# EAGLE library part COCOON_48BIT_HEADER (library Papilio_Pro_breakout-board)
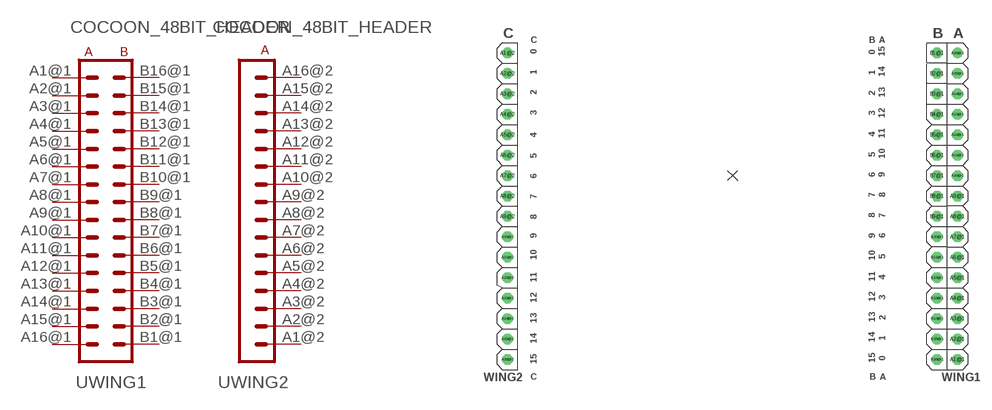
[diagram p0: symbol with the pads of COCOON_48BIT_HEADER; footprint COCOON_48BIT_HEADER]

Designator prefix -; gates WING1=COCOON_32BIT WING2=COCOON_16BIT_RIGHT

## COCOON_48BIT_HEADERCOCOON_48BIT_HEADER  [COCOON_48BIT_HEADER]
A1@1  WING1:A1  pas
A1@2  WING2:A1  pas
A2@1  WING1:A2  pas
A2@2  WING2:A2  pas
A3@1  WING1:A3  pas
A3@2  WING2:A3  pas
A4@1  WING1:A4  pas
A4@2  WING2:A4  pas
A5@1  WING1:A5  pas
A5@2  WING2:A5  pas
A6@1  WING1:A6  pas
A6@2  WING2:A6  pas
A7@1  WING1:A7  pas
A7@2  WING2:A7  pas
A8@1  WING1:A8  pas
A8@2  WING2:A8  pas
A9@1  WING1:A9  pas
A9@2  WING2:A9  pas
A10@1  WING1:A10  pas
A10@2  WING2:A10  pas
A11@1  WING1:A11  pas
A11@2  WING2:A11  pas
A12@1  WING1:A12  pas
A12@2  WING2:A12  pas
A13@1  WING1:A13  pas
A13@2  WING2:A13  pas
A14@1  WING1:A14  pas
A14@2  WING2:A14  pas
A15@1  WING1:A15  pas
A15@2  WING2:A15  pas
A16@1  WING1:A16  pas
A16@2  WING2:A16  pas
B1@1  WING1:B1  pas
B2@1  WING1:B2  pas
B3@1  WING1:B3  pas
B4@1  WING1:B4  pas
B5@1  WING1:B5  pas
B6@1  WING1:B6  pas
B7@1  WING1:B7  pas
B8@1  WING1:B8  pas
B9@1  WING1:B9  pas
B10@1  WING1:B10  pas
B11@1  WING1:B11  pas
B12@1  WING1:B12  pas
B13@1  WING1:B13  pas
B14@1  WING1:B14  pas
B15@1  WING1:B15  pas
B16@1  WING1:B16  pas

## Footprint COCOON_48BIT_HEADER (pad centres in mm)
drill 0.8 octagon: A1@1 62.23,5.08; A1@2 6.35,43.18; A2@1 62.23,7.62; A2@2 6.35,40.64; A3@1 62.23,10.16; A3@2 6.35,38.1; A4@1 62.23,12.7; A4@2 6.35,35.56; A5@1 62.23,15.24; A5@2 6.35,33.02; A6@1 62.23,17.78; A6@2 6.35,30.48; A7@1 62.23,20.32; A7@2 6.35,27.94; A8@1 62.23,22.86; A8@2 6.35,25.4; A9@1 62.23,25.4; A9@2 6.35,22.86; A10@1 62.23,27.94; A10@2 6.35,20.32; A11@1 62.23,30.48; A11@2 6.35,17.78; A12@1 62.23,33.02; A12@2 6.35,15.24; A13@1 62.23,35.56; A13@2 6.35,12.7; A14@1 62.23,38.1; A14@2 6.35,10.16; A15@1 62.23,40.64; A15@2 6.35,7.62; A16@2 6.35,5.08; B1@1 59.69,43.18; B2@1 59.69,40.64; B3@1 59.69,38.1; B4@1 59.69,35.56; B5@1 59.69,33.02; B6@1 59.69,30.48; B7@1 59.69,27.94; B8@1 59.69,25.4; B9@1 59.69,22.86; B10@1 59.69,20.32; B11@1 59.69,17.78; B12@1 59.69,15.24; B13@1 59.69,12.7; B14@1 59.69,10.16; B15@1 59.69,7.62; B16@1 59.69,5.08
drill 0.8: A16@1 62.23,43.18